# EAGLE library part BGA725L6 (library Particle)
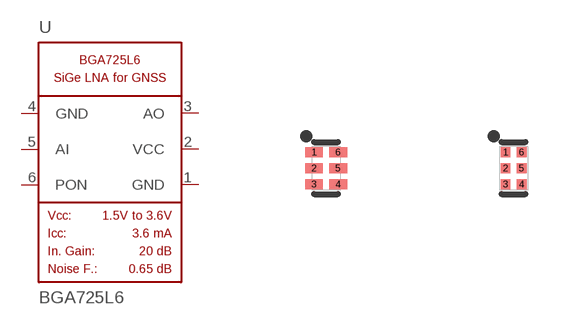
[diagram p27: symbol with the pads of LNA-TSLP-6-2-ALT; footprints LNA-TSLP-6-2-ALT, LNA-TSLP-6-2-ORIG]

Designator prefix U

## BGA725L6-ALT  [LNA-TSLP-6-2-ALT]
1  GND  pwr
2  VCC  pwr
3  AO  out
4  GND  pwr
5  AI  in
6  PON  in

## BGA725L6  [LNA-TSLP-6-2-ORIG]
Pads as for LNA-TSLP-6-2-ALT

## Footprint LNA-TSLP-6-2-ALT (pad centres in mm)
smd 0.45 x 0.25: 1 -0.3,0.4; 2 -0.3,0; 3 -0.3,-0.4; 4 0.3,-0.4; 5 0.3,0; 6 0.3,0.4

## Footprint LNA-TSLP-6-2-ORIG (pad centres in mm)
smd 0.25 x 0.25: 1 -0.2,0.4; 2 -0.2,0; 3 -0.2,-0.4; 4 0.2,-0.4; 5 0.2,0; 6 0.2,0.4